# EAGLE library part POL_STEP (library reprap)
Pololu stepper driver based on the A4983.
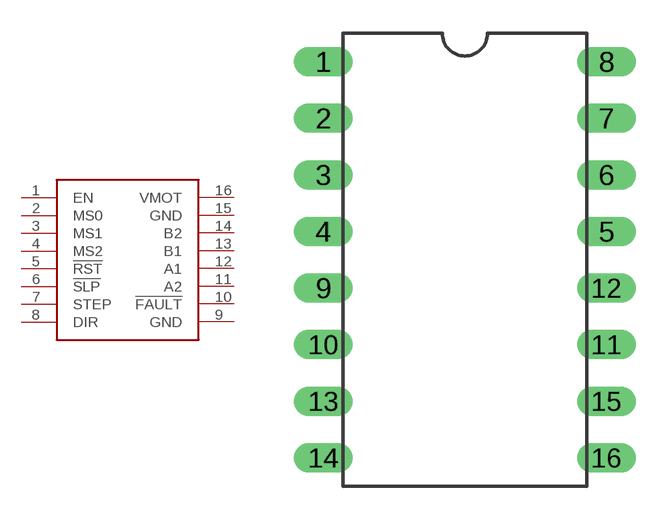
[diagram p12: symbol with the pads of DIL16; footprint DIL16]

Designator prefix -

## POL_STEP  [DIL16]
1  EN  in
2  MS0  in
3  MS1  in
4  MS2  in
5  !RST!  in
6  !SLP!  in
7  STEP  in
8  DIR  in
9  GND  pwr
10  !FAULT!  pwr
11  A2  out
12  A1  out
13  B1  out
14  B2  out
15  GND  pwr
16  VMOT  pwr

## Footprint DIL16 (pad centres in mm)
drill 0.813 long: 1 -6.35,8.89; 2 -6.35,6.35; 3 -6.35,3.81; 4 -6.35,1.27; 5 6.35,1.27; 6 6.35,3.81; 7 6.35,6.35; 8 6.35,8.89; 9 -6.35,-1.27; 10 -6.35,-3.81; 11 6.35,-3.81; 12 6.35,-1.27; 13 -6.35,-6.35; 14 -6.35,-8.89; 15 6.35,-6.35; 16 6.35,-8.89